# EAGLE library part INA2332 (library nonolith)
INSAMP - 5x: INA2332
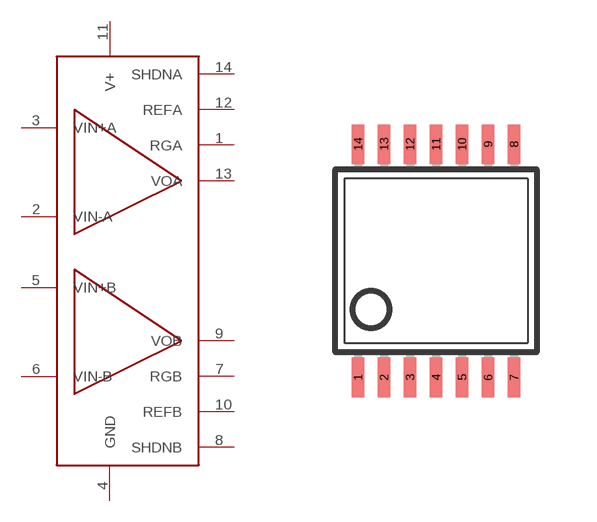
[diagram p2: symbol with the pads of TSSOP14; footprint TSSOP14]

Designator prefix -

## INA2332  [TSSOP14]
1  RGA
2  VIN-A
3  VIN+A
4  GND
5  VIN+B
6  VIN-B
7  RGB
8  SHDNB
9  VOB
10  REFB
11  V+
12  REFA
13  VOA
14  SHDNA

## Footprint TSSOP14 (pad centres in mm)
Thin Shrink Small Outline Plastic 14 MAX3223-MAX3243.pdf
smd 0.305 x 0.991: 1 -1.95,-2.918; 2 -1.3,-2.918; 3 -0.65,-2.918; 4 0,-2.918; 5 0.65,-2.918; 6 1.3,-2.918; 7 1.95,-2.918; 8 1.95,2.918; 9 1.3,2.918; 10 0.65,2.918; 11 0,2.918; 12 -0.65,2.918; 13 -1.3,2.918; 14 -1.95,2.918